# Altium footprint library 6-5530843-5.PcbLib: 4 footprints
Each footprint in its own frame and in the unit in brackets; x right, y up, seen from the top. Pads: shape width x height; smd on the part's side, far side on the other; paste and mask are expansions set on the pad; w line width, h text height; cw(c..) or ccw(c..) is an arc to the next point about the centre after c.
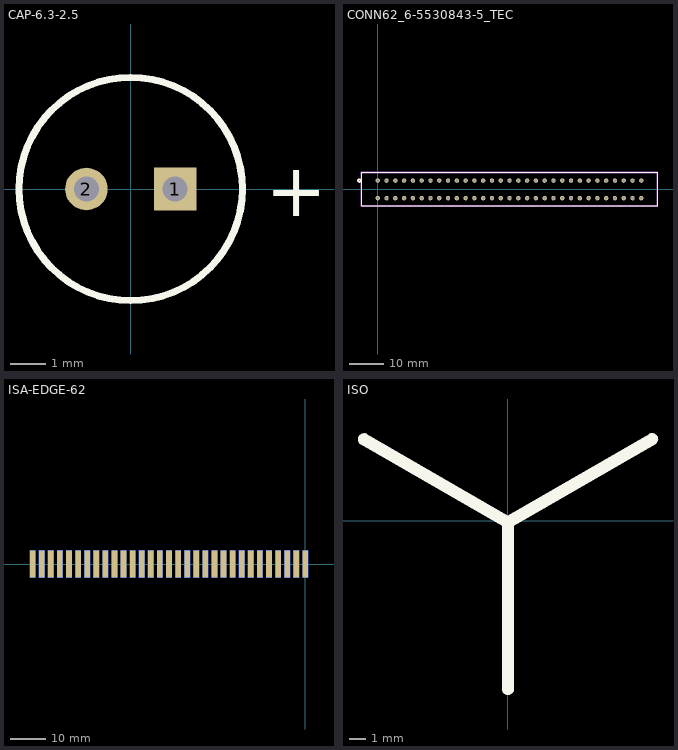
[diagram p0: the footprints below, top view; thin cyan lines are the x and y axes]

## CAP-6.3-2.5 [mm] "Polarized Capacitor (Radial); 2 Leads, 6.3 mm, 2.5 mm leads"
pads (2):
  rect 1.2x1.2 hole 0.7: 1(1.25,0)
  round 1.2 hole 0.7: 2(-1.25,0)
Top Overlay:
  circle w0.2: c0,0 r3.15
  text "+" at 3.81,-0.762 h1.5

## CONN62_6-5530843-5_TEC [mil]
pads (62):
  round 50 / inner round 60 / far side round 50 hole 30 paste-25 mask+0: A1(0,100) A2(100,100) A3(200,100) A4(300,100) A5(400,100) A6(500,100) A7(600,100) A8(700,100) A9(800,100) A10(900,100) A11(1000,100) A12(1100,100) A13(1200,100) A14(1300,100) A15(1400,100) A16(1500,100) A17(1600,100) A18(1700,100) A19(1800,100) A20(1900,100) A21(2000,100) A22(2100,100) A23(2200,100) A24(2300,100) A25(2400,100) A26(2500,100) A27(2600,100) A28(2700,100) A29(2800,100) A30(2900,100) A31(3000,100) B1(0,-100) B2(100,-100) B3(200,-100) B4(300,-100) B5(400,-100) B6(500,-100) B7(600,-100) B8(700,-100) B9(800,-100) B10(900,-100) B11(1000,-100) B12(1100,-100) B13(1200,-100) B14(1300,-100) B15(1400,-100) B16(1500,-100) B17(1600,-100) B18(1700,-100) B19(1800,-100) B20(1900,-100) B21(2000,-100) B22(2100,-100) B23(2200,-100) B24(2300,-100) B25(2400,-100) B26(2500,-100) B27(2600,-100) B28(2700,-100) B29(2800,-100) B30(2900,-100) B31(3000,-100)
Top Overlay:
  circle w20: c-210,100 r15
  lines w6: -185,-184.5 -185,193.5 3185,193.5 3185,-184.5 -185,-184.5
Bottom Overlay:
  circle w20: c-210,100 r15
Mechanical 13:
  lines w1: -180,-179.5 -180,188.5 3180,188.5 3180,-179.5 -180,-179.5
Mechanical 15:
  lines w6: -190,-189.5 3190,-189.5 3190,198.5 -190,198.5 -190,-189.5

## ISA-EDGE-62 [mm]
pads (62):
  rect 1.575x7.62 smd far side paste+0 mask+0: A1(0,0) A2(-2.54,0) A3(-5.08,0) A4(-7.62,0) A5(-10.16,0) A6(-12.7,0) A7(-15.24,0) A8(-17.78,0) A9(-20.32,0) A10(-22.86,0) A11(-25.4,0) A12(-27.94,0) A13(-30.48,0) A14(-33.02,0) A15(-35.56,0) A16(-38.1,0) A17(-40.64,0) A18(-43.18,0) A19(-45.72,0) A20(-48.26,0) A21(-50.8,0) A22(-53.34,0) A23(-55.88,0) A24(-58.42,0) A25(-60.96,0) A26(-63.5,0) A27(-66.04,0) A28(-68.58,0) A29(-71.12,0) A30(-73.66,0) A31(-76.2,0)
  rect 1.575x7.62 smd paste+0 mask+0: B1(0,0) B2(-2.54,0) B3(-5.08,0) B4(-7.62,0) B5(-10.16,0) B6(-12.7,0) B7(-15.24,0) B8(-17.78,0) B9(-20.32,0) B10(-22.86,0) B11(-25.4,0) B12(-27.94,0) B13(-30.48,0) B14(-33.02,0) B15(-35.56,0) B16(-38.1,0) B17(-40.64,0) B18(-43.18,0) B19(-45.72,0) B20(-48.26,0) B21(-50.8,0) B22(-53.34,0) B23(-55.88,0) B24(-58.42,0) B25(-60.96,0) B26(-63.5,0) B27(-66.04,0) B28(-68.58,0) B29(-71.12,0) B30(-73.66,0) B31(-76.2,0)

## ISO [mil]
Top Overlay:
  drawing of 1 lines, arcs and shapes, not listed
Top Solder:
  drawing of 1 lines, arcs and shapes, not listed